# Altium schematic symbol library FT231XQ-R.SchLib: 1 symbol
Pins are listed as number, name and electrical type; pins without a type are passive.

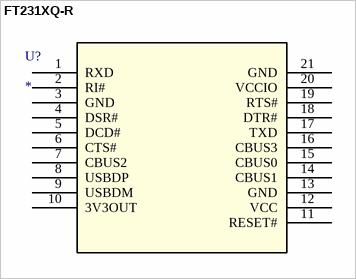
[diagram p0: symbol FT231XQ-R]

## FT231XQ-R
designator U?
No Description Available; Mfr_Name: FTDI, Future Technology Devices International Ltd; RefDes: RefDes; Type: Type
footprint QFN20_FT231XQ_FTD
pins: 1 RXD, 2 RI#, 3 GND, 4 DSR#, 5 DCD#, 6 CTS#, 7 CBUS2, 8 USBDP, 9 USBDM, 10 3V3OUT, 11 RESET#, 12 VCC, 13 GND, 14 CBUS1, 15 CBUS0, 16 CBUS3, 17 TXD, 18 DTR#, 19 RTS#, 20 VCCIO, 21 GND